# Altium footprint library Pcb库.PcbLib: 37 footprints (part 2 of 3)
Each footprint in its own frame and in the unit in brackets; x right, y up, seen from the top. Pads: shape width x height; smd on the part's side, far side on the other; paste and mask are expansions set on the pad; w line width, h text height; cw(c..) or ccw(c..) is an arc to the next point about the centre after c.
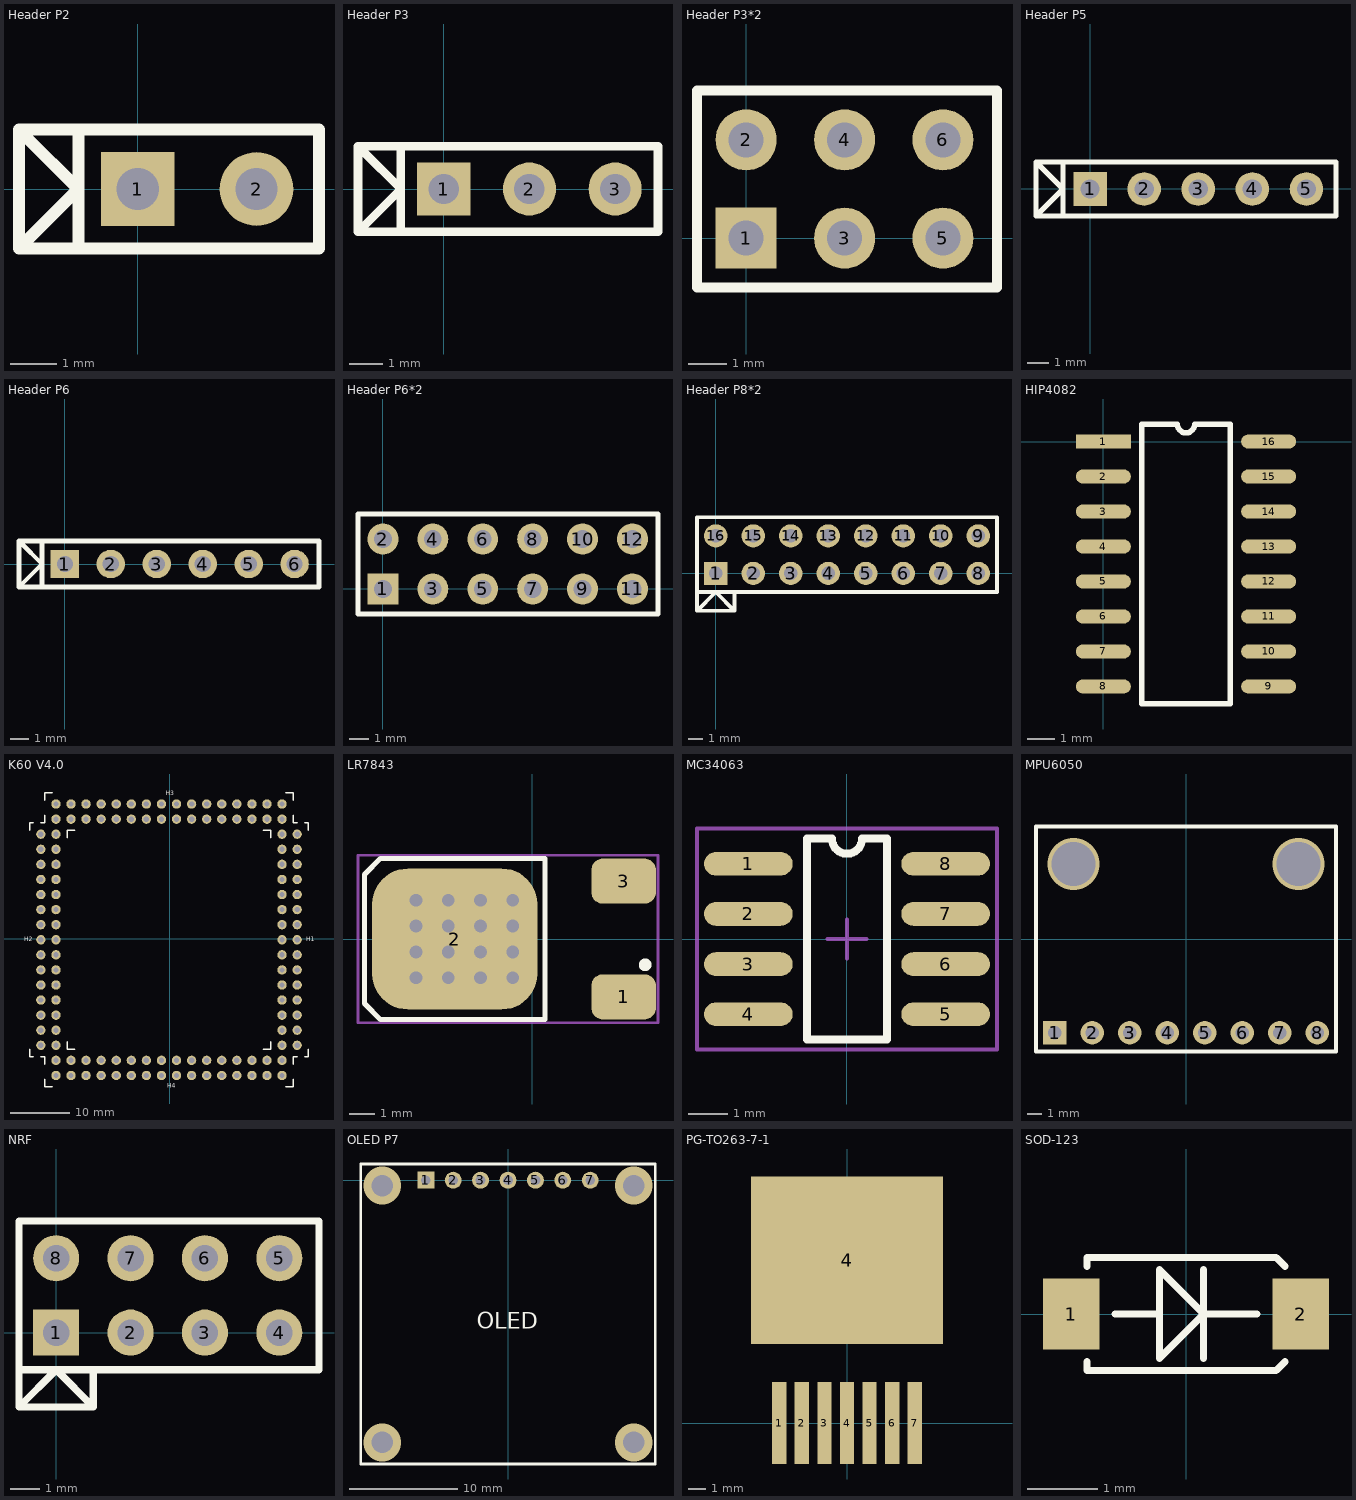
[diagram p1: the footprints below, top view; thin cyan lines are the x and y axes]

## Header P2 [mil]
pads (2):
  rect 62x62 hole 35.5: 1(0,0)
  round 62 hole 35.5: 2(100,0)
Top Overlay:
  lines w10: -95,45 -50,0 -100,-50 ; -100,-50 -100,50 -50,50 ; -100,-50 -50,-50 ; -50,-50 152.56,-50 152.56,50 -50,50 ; -50,-50 -50,50
3D body: height 100, standoff 0, extent 50,-50 150,50
3D body: height 100, standoff 0, extent -50,-50 50,50
3D body: height 350, standoff -100, extent 90,-10 110,10
3D body: height 350, standoff -100, extent -10,-10 10,10

## Header P3 [mil]
pads (3):
  rect 62x62 hole 35.5: 1(0,0)
  round 62 hole 35.5: 2(100,0) 3(200,0)
Top Overlay:
  lines w10: -95,45 -50,0 -100,-50 ; -100,-50 -50,-50 ; -100,-50 -100,50 -50,50 ; -50,-50 -50,50 ; -50,-50 250,-50 250,50 -50,50
3D body: height 350, standoff -100, extent -10,-10 10,10
3D body: height 350, standoff -100, extent 90,-10 110,10
3D body: height 350, standoff -100, extent 190,-10 210,10
3D body: height 100, standoff 0, extent 150,-50 250,50
3D body: height 100, standoff 0, extent -50,-50 50,50
3D body: height 100, standoff 0, extent 50,-50 150,50

## Header P3*2 [mil]
pads (6):
  rect 62x62 hole 35.5: 1(0,0)
  round 62 hole 35.5: 2(0,100) 3(100,0) 4(100,100) 5(200,0) 6(200,100)
Top Overlay:
  lines w10: -50,-50 254.92,-50 254.92,150 -50,150 -50,-50
3D body: height 350, standoff -100, extent -10,90 10,110
3D body: height 350, standoff -100, extent 90,90 110,110
3D body: height 350, standoff -100, extent 190,90 210,110
3D body: height 350, standoff -100, extent 190,-10 210,10
3D body: height 350, standoff -100, extent 90,-10 110,10
3D body: height 350, standoff -100, extent -10,-10 10,10
3D body: height 100, standoff 0, extent -50,50 50,150
3D body: height 100, standoff 0, extent 50,50 150,150
3D body: height 100, standoff 0, extent 150,50 250,150
3D body: height 100, standoff 0, extent 150,-50 250,50
3D body: height 100, standoff 0, extent 50,-50 150,50
3D body: height 100, standoff 0, extent -50,-50 50,50

## Header P5 [mil]
pads (5):
  rect 62x62 hole 35.5: 1(0,0)
  round 62 hole 35.5: 2(100,0) 3(200,0) 4(300,0) 5(400,0)
Top Overlay:
  lines w10: -95,45 -50,0 -100,-50 ; -100,-50 -50,-50 ; -100,-50 -100,50 -50,50 ; -50,-50 -50,50 ; -50,-50 454.72,-50 454.72,50 -50,50
3D body: height 350, standoff -100, extent -10,-10 10,10
3D body: height 350, standoff -100, extent 90,-10 110,10
3D body: height 350, standoff -100, extent 190,-10 210,10
3D body: height 100, standoff 0, extent 150,-50 250,50
3D body: height 100, standoff 0, extent -50,-50 50,50
3D body: height 100, standoff 0, extent 50,-50 150,50
3D body: height 100, standoff 0, extent 250,-50 350,50
3D body: height 100, standoff 0, extent 350,-50 450,50
3D body: height 350, standoff -100, extent 390,-10 410,10
3D body: height 350, standoff -100, extent 290,-10 310,10

## Header P6 [mil]
pads (6):
  rect 62x62 hole 35.5: 1(0,0)
  round 62 hole 35.5: 2(100,0) 3(200,0) 4(300,0) 5(400,0) 6(500,0)
Top Overlay:
  lines w10: -95,45 -50,0 -100,-50 ; -100,-50 -50,-50 ; -100,-50 -100,50 -50,50 ; -50,-50 -50,50 ; -50,-50 553.15,-50 553.15,50 -50,50
3D body: height 350, standoff -100, extent -10,-10 10,10
3D body: height 350, standoff -100, extent 90,-10 110,10
3D body: height 350, standoff -100, extent 190,-10 210,10
3D body: height 100, standoff 0, extent 150,-50 250,50
3D body: height 100, standoff 0, extent -50,-50 50,50
3D body: height 100, standoff 0, extent 50,-50 150,50
3D body: height 100, standoff 0, extent 250,-50 350,50
3D body: height 100, standoff 0, extent 350,-50 450,50
3D body: height 350, standoff -100, extent 390,-10 410,10
3D body: height 350, standoff -100, extent 290,-10 310,10
3D body: height 350, standoff -100, extent 490,-10 510,10
3D body: height 100, standoff 0, extent 450,-50 550,50

## Header P6*2 [mil]
pads (12):
  rect 62x62 hole 35.5: 1(0,0)
  round 62 hole 35.5: 2(0,100) 3(100,0) 4(100,100) 5(200,0) 6(200,100) 7(300,0) 8(300,100) 9(400,0) 10(400,100) 11(500,0) 12(500,100)
Top Overlay:
  lines w10: -50,-50 -50,150 551.18,150 551.18,-50 -50,-50
3D body: height 100, standoff 0, extent -50,-50 50,50
3D body: height 100, standoff 0, extent 50,-50 150,50
3D body: height 100, standoff 0, extent 150,-50 250,50
3D body: height 100, standoff 0, extent 250,-50 350,50
3D body: height 100, standoff 0, extent 350,-50 450,50
3D body: height 100, standoff 0, extent 450,-50 550,50
3D body: height 100, standoff 0, extent 450,50 550,150
3D body: height 100, standoff 0, extent 350,50 450,150
3D body: height 100, standoff 0, extent 250,50 350,150
3D body: height 100, standoff 0, extent 150,50 250,150
3D body: height 100, standoff 0, extent 50,50 150,150
3D body: height 100, standoff 0, extent -50,50 50,150
3D body: height 350, standoff -100, extent -10,-10 10,10
3D body: height 350, standoff -100, extent 90,-10 110,10
3D body: height 350, standoff -100, extent 190,-10 210,10
3D body: height 350, standoff -100, extent 290,-10 310,10
3D body: height 350, standoff -100, extent 390,-10 410,10
3D body: height 350, standoff -100, extent 490,-10 510,10
3D body: height 350, standoff -100, extent 490,90 510,110
3D body: height 350, standoff -100, extent 390,90 410,110
3D body: height 350, standoff -100, extent 290,90 310,110
3D body: height 350, standoff -100, extent 190,90 210,110
3D body: height 350, standoff -100, extent 90,90 110,110
3D body: height 350, standoff -100, extent -10,90 10,110

## Header P8*2 [mil]
pads (16):
  rect 62x62 hole 35.5: 1(0,0)
  round 62 hole 35.5: 2(100,0) 3(200,0) 4(300,0) 5(400,0) 6(500,0) 7(600,0) 8(700,0) 9(700,100) 10(600,100) 11(500,100) 12(400,100) 13(300,100) 14(200,100) 15(100,100) 16(0,100)
Top Overlay:
  lines w10: 50,-50 50,-100 ; -50,-100 -50,-50 ; -50,-100 0,-50 50,-100 ; -50,-100 50,-100 ; -50,-50 -50,150 750,150 750,-50 -50,-50
3D body: height 100, standoff 0, extent -50,-50 50,50
3D body: height 100, standoff 0, extent 50,-50 150,50
3D body: height 100, standoff 0, extent 150,-50 250,50
3D body: height 100, standoff 0, extent 250,-50 350,50
3D body: height 100, standoff 0, extent 350,-50 450,50
3D body: height 100, standoff 0, extent 450,-50 550,50
3D body: height 100, standoff 0, extent 550,-50 650,50
3D body: height 100, standoff 0, extent 650,-50 750,50
3D body: height 100, standoff 0, extent 650,50 750,150
3D body: height 100, standoff 0, extent 550,50 650,150
3D body: height 100, standoff 0, extent 450,50 550,150
3D body: height 100, standoff 0, extent 350,50 450,150
3D body: height 100, standoff 0, extent 250,50 350,150
3D body: height 100, standoff 0, extent 150,50 250,150
3D body: height 100, standoff 0, extent 50,50 150,150
3D body: height 100, standoff 0, extent -50,50 50,150
3D body: height 350, standoff -100, extent -10,-10 10,10
3D body: height 350, standoff -100, extent 90,-10 110,10
3D body: height 350, standoff -100, extent 190,-10 210,10
3D body: height 350, standoff -100, extent 290,-10 310,10
3D body: height 350, standoff -100, extent 390,-10 410,10
3D body: height 350, standoff -100, extent 490,-10 510,10
3D body: height 350, standoff -100, extent 590,-10 610,10
3D body: height 350, standoff -100, extent 690,-10 710,10
3D body: height 350, standoff -100, extent 690,90 710,110
3D body: height 350, standoff -100, extent 590,90 610,110
3D body: height 350, standoff -100, extent 490,90 510,110
3D body: height 350, standoff -100, extent 390,90 410,110
3D body: height 350, standoff -100, extent 290,90 310,110
3D body: height 350, standoff -100, extent 190,90 210,110
3D body: height 350, standoff -100, extent 90,90 110,110
3D body: height 350, standoff -100, extent -10,90 10,110

## HIP4082 [mm]
pads (16):
  rect 2x0.51 smd: 1(0,0)
  oval 2x0.51 smd: 2(0,-1.27) 3(0,-2.54) 4(0,-3.81) 5(0,-5.08) 6(0,-6.35) 7(0,-7.62) 8(0,-8.89) 9(6,-8.89) 10(6,-7.62) 11(6,-6.35) 12(6,-5.08) 13(6,-3.81) 14(6,-2.54) 15(6,-1.27) 16(6,0)
Top Overlay:
  lines w0.2: 1.4,-9.525 4.6,-9.525 4.6,0.635 3.317,0.635 cw(c3,0.635) 2.682,0.635 1.4,0.635 1.4,-9.525

## K60 V4.0 [mil]
pads (124):
  round 62 hole 35: 101(845,-705) 102(745,-705) 103(845,-605) 104(745,-605) 105(845,-505) 106(745,-505) 107(845,-405) 108(745,-405) 109(845,-305) 110(745,-305) 111(845,-205) 112(745,-205) 113(845,-105) 114(745,-105) 115(845,-5) 116(745,-5) 117(845,95) 118(745,95) 119(845,195) 120(745,195) 121(845,295) 122(745,295) 123(845,395) 124(745,395) 125(845,495) 126(745,495) 127(845,595) 128(745,595) 129(845,695) 130(745,695) 201(-755,-705) 202(-855,-705) 203(-755,-605) 204(-855,-605) 205(-755,-505) 206(-855,-505) 207(-755,-405) 208(-855,-405) 209(-755,-305) 210(-855,-305) 211(-755,-205) 212(-855,-205) 213(-755,-105) 214(-855,-105) 215(-755,-5) 216(-855,-5) 217(-755,95) 218(-855,95) 219(-755,195) 220(-855,195) 221(-755,295) 222(-855,295) 223(-755,395) 224(-855,395) 225(-755,495) 226(-855,495) 227(-755,595) 228(-855,595) 229(-755,695) 230(-855,695) 301(745,895) 302(745,795) 303(645,895) 304(645,795) 305(545,895) 306(545,795) 307(445,895) 308(445,795) 309(345,895) 310(345,795) 311(245,895) 312(245,795) 313(145,895) 314(145,795) 315(45,895) 316(45,795) 317(-55,895) 318(-55,795) 319(-155,895) 320(-155,795) 321(-255,895) 322(-255,795) 323(-355,895) 324(-355,795) 325(-455,895) 326(-455,795) 327(-555,895) 328(-555,795) 329(-655,895) 330(-655,795) 331(-755,895) 332(-755,795) 401(745,-805) 402(745,-905) 403(645,-805) 404(645,-905) 405(545,-805) 406(545,-905) 407(445,-805) 408(445,-905) 409(345,-805) 410(345,-905) 411(245,-805) 412(245,-905) 413(145,-805) 414(145,-905) 415(45,-805) 416(45,-905) 417(-55,-805) 418(-55,-905) 419(-155,-805) 420(-155,-905) 421(-255,-805) 422(-255,-905) 423(-355,-805) 424(-355,-905) 425(-455,-805) 426(-455,-905) 427(-555,-805) 428(-555,-905) 429(-655,-805) 430(-655,-905) 431(-755,-805) 432(-755,-905)
Top Overlay:
  lines w10: -930,-730 -930,-780 -905,-780 ; -930,720 -930,770 -905,770 ; -855,-780 -830,-780 -830,-830 ; -855,770 -830,770 -830,820 ; -830,-930 -830,-980 -780,-980 ; -830,920 -830,970 -780,970 ; -680,-680 -680,-730 -630,-730 ; -680,670 -680,720 -630,720 ; 620,-730 670,-730 670,-680 ; 620,720 670,720 670,670 ; 770,-980 820,-980 820,-930 ; 770,970 820,970 820,920 ; 820,-830 820,-780 845,-780 ; 820,820 820,770 845,770 ; 895,-780 920,-780 920,-730 ; 895,770 920,770 920,720
  text "H3" at -25,945 h50
  text "H2" at -965,-25 h50
  text "H4" at -15,-995 h50
  text "H1" at 905,-25 h50
3D body: height 200, standoff -100, extent -865,685 -845,705
3D body: height 300, standoff 0, extent -890,660 -820,730
3D body: height 350, standoff 0, extent -905,645 -805,745
3D body: height 200, standoff -100, extent -865,585 -845,605
3D body: height 300, standoff 0, extent -890,560 -820,630
3D body: height 350, standoff 0, extent -905,545 -805,645
3D body: height 200, standoff -100, extent -865,485 -845,505
3D body: height 300, standoff 0, extent -890,460 -820,530
3D body: height 350, standoff 0, extent -905,445 -805,545
3D body: height 200, standoff -100, extent -865,385 -845,405
3D body: height 300, standoff 0, extent -890,360 -820,430
3D body: height 350, standoff 0, extent -905,345 -805,445
3D body: height 200, standoff -100, extent -865,285 -845,305
3D body: height 300, standoff 0, extent -890,260 -820,330
3D body: height 350, standoff 0, extent -905,245 -805,345
3D body: height 200, standoff -100, extent -865,185 -845,205
3D body: height 300, standoff 0, extent -890,160 -820,230
3D body: height 350, standoff 0, extent -905,145 -805,245
3D body: height 200, standoff -100, extent -865,85 -845,105
3D body: height 300, standoff 0, extent -890,60 -820,130
3D body: height 350, standoff 0, extent -905,45 -805,145
3D body: height 200, standoff -100, extent -865,-15 -844.99,5
3D body: height 300, standoff 0, extent -889.99,-40 -820,30
3D body: height 350, standoff 0, extent -905,-55 -805,45
3D body: height 200, standoff -100, extent -865,-115 -845,-95
3D body: height 300, standoff 0, extent -890,-140 -820,-70
3D body: height 350, standoff 0, extent -905,-155 -805,-55
3D body: height 200, standoff -100, extent -865,-215 -845,-195
3D body: height 300, standoff 0, extent -890,-240 -820,-170
3D body: height 350, standoff 0, extent -905,-255 -805,-155
3D body: height 200, standoff -100, extent -865,-315 -845,-295
3D body: height 300, standoff 0, extent -890,-340 -820,-270
3D body: height 350, standoff 0, extent -905,-355 -805,-255
3D body: height 200, standoff -100, extent -865,-415 -845,-395
3D body: height 300, standoff 0, extent -890,-440 -820,-370
3D body: height 350, standoff 0, extent -905,-455 -805,-355
3D body: height 200, standoff -100, extent -865,-515 -845,-495
3D body: height 300, standoff 0, extent -890,-540 -820,-470
3D body: height 350, standoff 0, extent -905,-555 -805,-455
3D body: height 200, standoff -100, extent -865,-615 -844.99,-595
3D body: height 300, standoff 0, extent -889.99,-640 -820,-570
3D body: height 350, standoff 0, extent -905,-655 -805,-555
3D body: height 200, standoff -100, extent -865,-715 -845,-695
3D body: height 300, standoff 0, extent -890,-740 -820,-670
3D body: height 350, standoff 0, extent -905,-755 -805,-655
3D body: height 350, standoff 0, extent -805,-755 -705,-655
3D body: height 300, standoff 0, extent -790,-740 -720,-670
3D body: height 200, standoff -100, extent -765,-715 -745,-695
3D body: height 350, standoff 0, extent -805,-655 -705,-555
3D body: height 300, standoff 0, extent -789.99,-640 -720,-570
3D body: height 200, standoff -100, extent -765,-615 -744.99,-595
3D body: height 350, standoff 0, extent -805,-555 -705,-455
3D body: height 300, standoff 0, extent -790,-540 -720,-470
3D body: height 200, standoff -100, extent -765,-515 -745,-495
3D body: height 350, standoff 0, extent -805,-455 -705,-355
3D body: height 300, standoff 0, extent -790,-440 -720,-370
3D body: height 200, standoff -100, extent -765,-415 -745,-395
3D body: height 350, standoff 0, extent -805,-355 -705,-255
3D body: height 300, standoff 0, extent -790,-340 -720,-270
3D body: height 200, standoff -100, extent -765,-315 -745,-295
3D body: height 350, standoff 0, extent -805,-255 -705,-155
3D body: height 300, standoff 0, extent -790,-240 -720,-170
3D body: height 200, standoff -100, extent -765,-215 -745,-195
3D body: height 350, standoff 0, extent -805,-155 -705,-55
3D body: height 300, standoff 0, extent -790,-140 -720,-70
3D body: height 200, standoff -100, extent -765,-115 -745,-95
3D body: height 350, standoff 0, extent -805,-55 -705,45
3D body: height 300, standoff 0, extent -789.99,-40 -720,30
3D body: height 200, standoff -100, extent -765,-15 -744.99,5
3D body: height 350, standoff 0, extent -805,45 -705,145
3D body: height 300, standoff 0, extent -790,60 -720,130
3D body: height 200, standoff -100, extent -765,85 -745,105
3D body: height 350, standoff 0, extent -805,145 -705,245
3D body: height 300, standoff 0, extent -790,160 -720,230
3D body: height 200, standoff -100, extent -765,185 -745,205
3D body: height 350, standoff 0, extent -805,245 -705,345
3D body: height 300, standoff 0, extent -790,260 -720,330
3D body: height 200, standoff -100, extent -765,285 -745,305
3D body: height 350, standoff 0, extent -805,345 -705,445
3D body: height 300, standoff 0, extent -790,360 -720,430
3D body: height 200, standoff -100, extent -765,385 -745,405
3D body: height 350, standoff 0, extent -805,445 -705,545
3D body: height 300, standoff 0, extent -790,460 -720,530
3D body: height 200, standoff -100, extent -765,485 -745,505
3D body: height 350, standoff 0, extent -805,545 -705,645
3D body: height 300, standoff 0, extent -790,560 -720,630
3D body: height 200, standoff -100, extent -765,585 -745,605
3D body: height 350, standoff 0, extent -805,645 -705,745
3D body: height 300, standoff 0, extent -790,660 -720,730
3D body: height 200, standoff -100, extent -765,685 -745,705
3D body: height 350, standoff 0, extent 695,-755 795,-655
3D body: height 300, standoff 0, extent 710,-740 780,-670
3D body: height 200, standoff -100, extent 735,-715 755,-695
3D body: height 350, standoff 0, extent 695,-655 795,-555
3D body: height 300, standoff 0, extent 710.01,-640 780,-570
3D body: height 200, standoff -100, extent 735,-615 755.01,-595
3D body: height 350, standoff 0, extent 695,-555 795,-455
3D body: height 300, standoff 0, extent 710,-540 780,-470
3D body: height 200, standoff -100, extent 735,-515 755,-495
3D body: height 350, standoff 0, extent 695,-455 795,-355
3D body: height 300, standoff 0, extent 710,-440 780,-370
3D body: height 200, standoff -100, extent 735,-415 755,-395
3D body: height 350, standoff 0, extent 695,-355 795,-255
3D body: height 300, standoff 0, extent 710,-340 780,-270
3D body: height 200, standoff -100, extent 735,-315 755,-295
3D body: height 350, standoff 0, extent 695,-255 795,-155
3D body: height 300, standoff 0, extent 710,-240 780,-170
3D body: height 200, standoff -100, extent 735,-215 755,-195
3D body: height 350, standoff 0, extent 695,-155 795,-55
3D body: height 300, standoff 0, extent 710,-140 780,-70
3D body: height 200, standoff -100, extent 735,-115 755,-95
3D body: height 350, standoff 0, extent 695,-55 795,45
3D body: height 300, standoff 0, extent 710.01,-40 780,30
3D body: height 200, standoff -100, extent 735,-15 755.01,5
3D body: height 350, standoff 0, extent 695,45 795,145
3D body: height 300, standoff 0, extent 710,60 780,130
3D body: height 200, standoff -100, extent 735,85 755,105
3D body: height 350, standoff 0, extent 695,145 795,245
3D body: height 300, standoff 0, extent 710,160 780,230
3D body: height 200, standoff -100, extent 735,185 755,205
3D body: height 350, standoff 0, extent 695,245 795,345
3D body: height 300, standoff 0, extent 710,260 780,330
3D body: height 200, standoff -100, extent 735,285 755,305
3D body: height 350, standoff 0, extent 695,345 795,445
3D body: height 300, standoff 0, extent 710,360 780,430
3D body: height 200, standoff -100, extent 735,385 755,405
3D body: height 350, standoff 0, extent 695,445 795,545
3D body: height 300, standoff 0, extent 710,460 780,530
3D body: height 200, standoff -100, extent 735,485 755,505
3D body: height 350, standoff 0, extent 695,545 795,645
3D body: height 300, standoff 0, extent 710,560 780,630
3D body: height 200, standoff -100, extent 735,585 755,605
3D body: height 350, standoff 0, extent 695,645 795,745
3D body: height 300, standoff 0, extent 710,660 780,730
3D body: height 200, standoff -100, extent 735,685 755,705
3D body: height 350, standoff 0, extent 795,-755 895,-655
3D body: height 300, standoff 0, extent 810,-740 880,-670
3D body: height 200, standoff -100, extent 835,-715 855,-695
3D body: height 350, standoff 0, extent 795,-655 895,-555
3D body: height 300, standoff 0, extent 810.01,-640 880,-570
3D body: height 200, standoff -100, extent 835,-615 855.01,-595
3D body: height 350, standoff 0, extent 795,-555 895,-455
3D body: height 300, standoff 0, extent 810,-540 880,-470
3D body: height 200, standoff -100, extent 835,-515 855,-495
3D body: height 350, standoff 0, extent 795,-455 895,-355
3D body: height 300, standoff 0, extent 810,-440 880,-370
3D body: height 200, standoff -100, extent 835,-415 855,-395
3D body: height 350, standoff 0, extent 795,-355 895,-255
3D body: height 300, standoff 0, extent 810,-340 880,-270
3D body: height 200, standoff -100, extent 835,-315 855,-295
3D body: height 350, standoff 0, extent 795,-255 895,-155
3D body: height 300, standoff 0, extent 810,-240 880,-170
3D body: height 200, standoff -100, extent 835,-215 855,-195
3D body: height 350, standoff 0, extent 795,-155 895,-55
3D body: height 300, standoff 0, extent 810,-140 880,-70
3D body: height 200, standoff -100, extent 835,-115 855,-95
3D body: height 350, standoff 0, extent 795,-55 895,45
3D body: height 300, standoff 0, extent 810.01,-40 880,30
3D body: height 200, standoff -100, extent 835,-15 855.01,5
3D body: height 350, standoff 0, extent 795,45 895,145
3D body: height 300, standoff 0, extent 810,60 880,130
3D body: height 200, standoff -100, extent 835,85 855,105
3D body: height 350, standoff 0, extent 795,145 895,245
3D body: height 300, standoff 0, extent 810,160 880,230
3D body: height 200, standoff -100, extent 835,185 855,205
3D body: height 350, standoff 0, extent 795,245 895,345
3D body: height 300, standoff 0, extent 810,260 880,330
3D body: height 200, standoff -100, extent 835,285 855,305
3D body: height 350, standoff 0, extent 795,345 895,445
3D body: height 300, standoff 0, extent 810,360 880,430
3D body: height 200, standoff -100, extent 835,385 855,405
3D body: height 350, standoff 0, extent 795,445 895,545
3D body: height 300, standoff 0, extent 810,460 880,530
3D body: height 200, standoff -100, extent 835,485 855,505
3D body: height 350, standoff 0, extent 795,545 895,645
3D body: height 300, standoff 0, extent 810,560 880,630
3D body: height 200, standoff -100, extent 835,585 855,605
3D body: height 350, standoff 0, extent 795,645 895,745
3D body: height 300, standoff 0, extent 810,660 880,730
3D body: height 200, standoff -100, extent 835,685 855,705
3D body: height 350, standoff 0, extent 595,845 695,945
3D body: height 300, standoff 0, extent 610,860 680,930
3D body: height 200, standoff -100, extent 635,885 655,905
3D body: height 350, standoff 0, extent 495,845 595,945
3D body: height 300, standoff 0, extent 510,860.01 580,930
3D body: height 200, standoff -100, extent 535,885 555,905.01
3D body: height 350, standoff 0, extent 395,845 495,945
3D body: height 300, standoff 0, extent 410,860 480,930
3D body: height 200, standoff -100, extent 435,885 455,905
3D body: height 350, standoff 0, extent 295,845 395,945
3D body: height 300, standoff 0, extent 310,860 380,930
3D body: height 200, standoff -100, extent 335,885 355,905
3D body: height 350, standoff 0, extent 195,845 295,945
3D body: height 300, standoff 0, extent 210,860 280,930
3D body: height 200, standoff -100, extent 235,885 255,905
3D body: height 350, standoff 0, extent 95,845 195,945
3D body: height 300, standoff 0, extent 110,860 180,930
3D body: height 200, standoff -100, extent 135,885 155,905
3D body: height 350, standoff 0, extent -5,845 95,945
3D body: height 300, standoff 0, extent 10,860 80,930
3D body: height 200, standoff -100, extent 35,885 55,905
3D body: height 350, standoff 0, extent -105,845 -5,945
3D body: height 300, standoff 0, extent -90,860.01 -20,930
3D body: height 200, standoff -100, extent -65,885 -45,905.01
3D body: height 350, standoff 0, extent -205,845 -105,945
3D body: height 300, standoff 0, extent -190,860 -120,930
3D body: height 200, standoff -100, extent -165,885 -145,905
3D body: height 350, standoff 0, extent -305,845 -205,945
3D body: height 300, standoff 0, extent -290,860 -220,930
3D body: height 200, standoff -100, extent -265,885 -245,905
3D body: height 350, standoff 0, extent -405,845 -305,945
3D body: height 300, standoff 0, extent -390,860 -320,930
3D body: height 200, standoff -100, extent -365,885 -345,905
3D body: height 350, standoff 0, extent -505,845 -405,945
3D body: height 300, standoff 0, extent -490,860 -420,930
3D body: height 200, standoff -100, extent -465,885 -445,905
3D body: height 350, standoff 0, extent -605,845 -505,945
3D body: height 300, standoff 0, extent -590,860 -520,930
3D body: height 200, standoff -100, extent -565,885 -545,905
3D body: height 350, standoff 0, extent -705,845 -605,945
3D body: height 300, standoff 0, extent -690,860 -620,930
3D body: height 200, standoff -100, extent -665,885 -645,905
3D body: height 350, standoff 0, extent -805,845 -705,945
3D body: height 300, standoff 0, extent -790,860 -720,930
3D body: height 200, standoff -100, extent -765,885 -745,905
3D body: height 350, standoff 0, extent 595,745 695,845
3D body: height 300, standoff 0, extent 610,760 680,830
3D body: height 200, standoff -100, extent 635,785 655,805
3D body: height 350, standoff 0, extent 495,745 595,845
3D body: height 300, standoff 0, extent 510,760.01 580,830
3D body: height 200, standoff -100, extent 535,785 555,805.01
3D body: height 350, standoff 0, extent 395,745 495,845
3D body: height 300, standoff 0, extent 410,760 480,830
3D body: height 200, standoff -100, extent 435,785 455,805
3D body: height 350, standoff 0, extent 295,745 395,845
3D body: height 300, standoff 0, extent 310,760 380,830
3D body: height 200, standoff -100, extent 335,785 355,805
3D body: height 350, standoff 0, extent 195,745 295,845
3D body: height 300, standoff 0, extent 210,760 280,830
3D body: height 200, standoff -100, extent 235,785 255,805
3D body: height 350, standoff 0, extent 95,745 195,845
3D body: height 300, standoff 0, extent 110,760 180,830
3D body: height 200, standoff -100, extent 135,785 155,805
3D body: height 350, standoff 0, extent -5,745 95,845
3D body: height 300, standoff 0, extent 10,760 80,830
3D body: height 200, standoff -100, extent 35,785 55,805
3D body: height 350, standoff 0, extent -105,745 -5,845
3D body: height 300, standoff 0, extent -90,760.01 -20,830
3D body: height 200, standoff -100, extent -65,785 -45,805.01
3D body: height 350, standoff 0, extent -205,745 -105,845
3D body: height 300, standoff 0, extent -190,760 -120,830
3D body: height 200, standoff -100, extent -165,785 -145,805
3D body: height 350, standoff 0, extent -305,745 -205,845
3D body: height 300, standoff 0, extent -290,760 -220,830
3D body: height 200, standoff -100, extent -265,785 -245,805
3D body: height 350, standoff 0, extent -405,745 -305,845
3D body: height 300, standoff 0, extent -390,760 -320,830
3D body: height 200, standoff -100, extent -365,785 -345,805
3D body: height 350, standoff 0, extent -505,745 -405,845
3D body: height 300, standoff 0, extent -490,760 -420,830
3D body: height 200, standoff -100, extent -465,785 -445,805
3D body: height 350, standoff 0, extent -605,745 -505,845
3D body: height 300, standoff 0, extent -590,760 -520,830
3D body: height 200, standoff -100, extent -565,785 -545,805
3D body: height 350, standoff 0, extent -705,745 -605,845
3D body: height 300, standoff 0, extent -690,760 -620,830
3D body: height 200, standoff -100, extent -665,785 -645,805
3D body: height 350, standoff 0, extent -805,745 -705,845
3D body: height 300, standoff 0, extent -790,760 -720,830
3D body: height 200, standoff -100, extent -765,785 -745,805
3D body: height 350, standoff 0, extent 595,-855 695,-755
3D body: height 300, standoff 0, extent 610,-840 680,-770
3D body: height 200, standoff -100, extent 635,-815 655,-795
3D body: height 350, standoff 0, extent 495,-855 595,-755
3D body: height 300, standoff 0, extent 510,-839.99 580,-770
3D body: height 200, standoff -100, extent 535,-815 555,-794.99
3D body: height 350, standoff 0, extent 395,-855 495,-755
3D body: height 300, standoff 0, extent 410,-840 480,-770
3D body: height 200, standoff -100, extent 435,-815 455,-795
3D body: height 350, standoff 0, extent 295,-855 395,-755
3D body: height 300, standoff 0, extent 310,-840 380,-770
3D body: height 200, standoff -100, extent 335,-815 355,-795
3D body: height 350, standoff 0, extent 195,-855 295,-755
3D body: height 300, standoff 0, extent 210,-840 280,-770
3D body: height 200, standoff -100, extent 235,-815 255,-795
3D body: height 350, standoff 0, extent 95,-855 195,-755
3D body: height 300, standoff 0, extent 110,-840 180,-770
3D body: height 200, standoff -100, extent 135,-815 155,-795
3D body: height 350, standoff 0, extent -5,-855 95,-755
3D body: height 300, standoff 0, extent 10,-840 80,-770
3D body: height 200, standoff -100, extent 35,-815 55,-795
3D body: height 350, standoff 0, extent -105,-855 -5,-755
3D body: height 300, standoff 0, extent -90,-839.99 -20,-770
3D body: height 200, standoff -100, extent -65,-815 -45,-794.99
3D body: height 350, standoff 0, extent -205,-855 -105,-755
3D body: height 300, standoff 0, extent -190,-840 -120,-770
3D body: height 200, standoff -100, extent -165,-815 -145,-795
3D body: height 350, standoff 0, extent -305,-855 -205,-755
3D body: height 300, standoff 0, extent -290,-840 -220,-770
3D body: height 200, standoff -100, extent -265,-815 -245,-795
3D body: height 350, standoff 0, extent -405,-855 -305,-755
3D body: height 300, standoff 0, extent -390,-840 -320,-770
3D body: height 200, standoff -100, extent -365,-815 -345,-795
3D body: height 350, standoff 0, extent -505,-855 -405,-755
3D body: height 300, standoff 0, extent -490,-840 -420,-770
3D body: height 200, standoff -100, extent -465,-815 -445,-795
3D body: height 350, standoff 0, extent -605,-855 -505,-755
3D body: height 300, standoff 0, extent -590,-840 -520,-770
3D body: height 200, standoff -100, extent -565,-815 -545,-795
3D body: height 350, standoff 0, extent -705,-855 -605,-755
3D body: height 300, standoff 0, extent -690,-840 -620,-770
3D body: height 200, standoff -100, extent -665,-815 -645,-795
3D body: height 350, standoff 0, extent -805,-855 -705,-755
3D body: height 300, standoff 0, extent -790,-840 -720,-770
3D body: height 200, standoff -100, extent -765,-815 -745,-795
3D body: height 350, standoff 0, extent 595,-955 695,-855
3D body: height 300, standoff 0, extent 610,-940 680,-870
3D body: height 200, standoff -100, extent 635,-915 655,-895
3D body: height 350, standoff 0, extent 495,-955 595,-855
3D body: height 300, standoff 0, extent 510,-939.99 580,-870
3D body: height 200, standoff -100, extent 535,-915 555,-894.99
3D body: height 350, standoff 0, extent 395,-955 495,-855
3D body: height 300, standoff 0, extent 410,-940 480,-870
3D body: height 200, standoff -100, extent 435,-915 455,-895
3D body: height 350, standoff 0, extent 295,-955 395,-855
3D body: height 300, standoff 0, extent 310,-940 380,-870
3D body: height 200, standoff -100, extent 335,-915 355,-895
3D body: height 350, standoff 0, extent 195,-955 295,-855
3D body: height 300, standoff 0, extent 210,-940 280,-870
3D body: height 200, standoff -100, extent 235,-915 255,-895
3D body: height 350, standoff 0, extent 95,-955 195,-855
3D body: height 300, standoff 0, extent 110,-940 180,-870
3D body: height 200, standoff -100, extent 135,-915 155,-895
3D body: height 350, standoff 0, extent -5,-955 95,-855
3D body: height 300, standoff 0, extent 10,-940 80,-870
3D body: height 200, standoff -100, extent 35,-915 55,-895
3D body: height 350, standoff 0, extent -105,-955 -5,-855
3D body: height 300, standoff 0, extent -90,-939.99 -20,-870
3D body: height 200, standoff -100, extent -65,-915 -45,-894.99
3D body: height 350, standoff 0, extent -205,-955 -105,-855
3D body: height 300, standoff 0, extent -190,-940 -120,-870
3D body: height 200, standoff -100, extent -165,-915 -145,-895
3D body: height 350, standoff 0, extent -305,-955 -205,-855
3D body: height 300, standoff 0, extent -290,-940 -220,-870
3D body: height 200, standoff -100, extent -265,-915 -245,-895
3D body: height 350, standoff 0, extent -405,-955 -305,-855
3D body: height 300, standoff 0, extent -390,-940 -320,-870
3D body: height 200, standoff -100, extent -365,-915 -345,-895
3D body: height 350, standoff 0, extent -505,-955 -405,-855
3D body: height 300, standoff 0, extent -490,-940 -420,-870
3D body: height 200, standoff -100, extent -465,-915 -445,-895
3D body: height 350, standoff 0, extent -605,-955 -505,-855
3D body: height 300, standoff 0, extent -590,-940 -520,-870
3D body: height 200, standoff -100, extent -565,-915 -545,-895
3D body: height 350, standoff 0, extent -705,-955 -605,-855
3D body: height 300, standoff 0, extent -690,-940 -620,-870
3D body: height 200, standoff -100, extent -665,-915 -645,-895
3D body: height 350, standoff 0, extent -805,-955 -705,-855
3D body: height 300, standoff 0, extent -790,-940 -720,-870
3D body: height 200, standoff -100, extent -765,-915 -745,-895
3D body: height 200, standoff -100, extent 735,885 755,905
3D body: height 300, standoff 0, extent 710,860 780,930
3D body: height 350, standoff 0, extent 695,845 795,945
3D body: height 200, standoff -100, extent 735,785 755,805
3D body: height 300, standoff 0, extent 710,760 780,830
3D body: height 350, standoff 0, extent 695,745 795,845
3D body: height 200, standoff -100, extent 735,-815 755,-795
3D body: height 300, standoff 0, extent 710,-840 780,-770
3D body: height 350, standoff 0, extent 695,-855 795,-755
3D body: height 200, standoff -100, extent 735,-915 755,-895
3D body: height 300, standoff 0, extent 710,-940 780,-870
3D body: height 350, standoff 0, extent 695,-955 795,-855

## LR7843 [mm]
pads (3):
  rrect50% 2.54x1.778 smd: 1(3.6,-2.28) 3(3.6,2.28)
  rrect50% 6.5x5.55 smd: 2(-3.048,0)
via -4.572,1.524 diameter 0.8 hole 0.5
via -4.572,0.508 diameter 0.8 hole 0.5
via -4.572,-0.508 diameter 0.8 hole 0.5
via -4.572,-1.524 diameter 0.8 hole 0.5
via -3.302,1.524 diameter 0.8 hole 0.5
via -3.302,0.508 diameter 0.8 hole 0.5
via -3.302,-0.508 diameter 0.8 hole 0.5
via -2.032,1.524 diameter 0.8 hole 0.5
via -2.032,0.508 diameter 0.8 hole 0.5
via -2.032,-1.524 diameter 0.8 hole 0.5
via -2.032,-0.508 diameter 0.8 hole 0.5
via -3.302,-1.524 diameter 0.8 hole 0.5
via -0.762,0.508 diameter 0.8 hole 0.5
via -0.762,1.524 diameter 0.8 hole 0.5
via -0.762,-0.508 diameter 0.8 hole 0.5
via -0.762,-1.524 diameter 0.8 hole 0.5
Top Overlay:
  circle w0.25: c4.447,-1.016 r0.125
  lines w0.2: -6.604,-2.54 -5.969,-3.175 0.508,-3.175 0.508,3.175 -5.969,3.175 -6.604,2.54 -6.604,-2.54
Mechanical 15:
  lines w0.1: -1.85,0 -0.85,0 ; -1.35,-0.5 -1.35,0.5 ; -6.858,-3.302 4.953,-3.302 4.953,3.302 -6.858,3.302 -6.858,-3.302

## MC34063 [mm]
pads (8):
  oval 2.25x0.6 smd: 1(-2.5,1.905) 2(-2.5,0.635) 3(-2.5,-0.635) 4(-2.5,-1.905) 5(2.5,-1.905) 6(2.5,-0.635) 7(2.5,0.635) 8(2.5,1.905)
Top Overlay:
  lines w0.203: -0.395,2.55 -1.016,2.55 -1.016,-2.55 1.016,-2.55 1.016,2.55 0.381,2.55 ; -0.381,2.54 ccw(c0,2.54) 0.381,2.54
Mechanical 15:
  lines w0.1: -0.5,0 0.5,0 ; 0,-0.5 0,0.5 ; -3.8,-2.8 3.8,-2.8 3.8,2.8 -3.8,2.8 -3.8,-2.8

## MPU6050 [mil]
pads (8):
  rect 62x62 hole 35.5: 1(-350,-250)
  round 62 hole 35.5: 2(-250,-250) 3(-150,-250) 4(-50,-250) 5(50,-250) 6(150,-250) 7(250,-250) 8(350,-250)
via -300,200 diameter 137.8 hole 118.1
via 300,200 diameter 137.8 hole 118.1
Top Overlay:
  lines w10: -400,-300 400,-300 400,300 -400,300 -400,-300
3D body: height 350, standoff 0, extent 300,-300 400,-200
3D body: height 300, standoff 0, extent 315,-285 385,-215
3D body: height 200, standoff -100, extent 340,-260 360,-240
3D body: height 350, standoff 0, extent 200,-300 300,-200
3D body: height 300, standoff 0, extent 215,-285 285,-215
3D body: height 200, standoff -100, extent 240,-260 260,-240
3D body: height 350, standoff 0, extent 100,-300 200,-200
3D body: height 300, standoff 0, extent 115,-285 185,-215
3D body: height 200, standoff -100, extent 140,-260 160,-240
3D body: height 350, standoff 0, extent 0,-300 100,-200
3D body: height 300, standoff 0, extent 15,-285 85,-215
3D body: height 200, standoff -100, extent 40,-260 60,-240
3D body: height 350, standoff 0, extent -100,-300 0,-200
3D body: height 300, standoff 0, extent -85,-285 -15,-215
3D body: height 200, standoff -100, extent -60,-260 -40,-240
3D body: height 350, standoff 0, extent -200,-300 -100,-200
3D body: height 300, standoff 0, extent -185,-285 -115,-215
3D body: height 200, standoff -100, extent -160,-260 -140,-240
3D body: height 350, standoff 0, extent -300,-300 -200,-200
3D body: height 300, standoff 0, extent -285,-285 -215,-215
3D body: height 200, standoff -100, extent -260,-260 -240,-240
3D body: height 350, standoff 0, extent -400,-300 -300,-200
3D body: height 300, standoff 0, extent -385,-285 -315,-215
3D body: height 200, standoff -100, extent -360,-260 -340,-240

## NRF [mil]
pads (8):
  rect 62x62 hole 35.5: 1(0,0)
  round 62 hole 35.5: 2(100,0) 3(200,0) 4(300,0) 5(300,100) 6(200,100) 7(100,100) 8(0,100)
Top Overlay:
  lines w10: 50,-50 50,-100 ; -50,-100 50,-100 ; -50,-100 0,-50 50,-100 ; -50,-100 -50,-50 ; -50,-50 353.35,-50 353.35,150 -50,150 -50,-50
3D body: height 200, standoff -100, extent 290,-10 310,10
3D body: height 200, standoff -100, extent 290,90 310,110
3D body: height 200, standoff -100, extent 190,-10 210,10
3D body: height 200, standoff -100, extent 190,90 210,110
3D body: height 200, standoff -100, extent 90,-10 110,10
3D body: height 200, standoff -100, extent 90,90 110,110
3D body: height 200, standoff -100, extent -10,-10 10,10
3D body: height 200, standoff -100, extent -10,90 10,110
3D body: height 350, standoff 0, extent 250,-50 350,50
3D body: height 350, standoff 0, extent 250,50 350,150
3D body: height 350, standoff 0, extent 150,-50 250,50
3D body: height 350, standoff 0, extent 150,50 250,150
3D body: height 350, standoff 0, extent 50,-50 150,50
3D body: height 350, standoff 0, extent 50,50 150,150
3D body: height 350, standoff 0, extent -50,-50 50,50
3D body: height 350, standoff 0, extent -50,50 50,150
3D body: height 300, standoff 0, extent -35,65 35,135
3D body: height 300, standoff 0, extent 65,65 135,135
3D body: height 300, standoff 0, extent 65,-35 135,35
3D body: height 300, standoff 0, extent -35,-35 35,35
3D body: height 300, standoff 0, extent 165,65 235,135
3D body: height 300, standoff 0, extent 165,-35 235,35
3D body: height 300, standoff 0, extent 265,65 335,135
3D body: height 300, standoff 0, extent 265,-35 335,35

## OLED P7 [mil]
pads (7):
  rect 62x62 hole 35.5: 1(-300,0)
  round 62 hole 35.5: 2(-200,0) 3(-100,0) 4(0,0) 5(100,0) 6(200,0) 7(300,0)
via -458.66,-19.68 diameter 137.8 hole 78.74
via 458.66,-19.68 diameter 137.8 hole 78.74
via -458.66,-956.69 diameter 137.8 hole 78.74
via 458.66,-956.69 diameter 137.8 hole 78.74
Top Overlay:
  lines w10: -537.4,-1035.43 -537.4,59.06 537.4,59.06 537.4,-1035.43 -537.4,-1035.43
  text "OLED" at -113.19,-542.32 h60
3D body: height 200, standoff -100, extent -310,-10 -290,10
3D body: height 300, standoff 0, extent -335,-35 -265,35
3D body: height 350, standoff 0, extent -350,-50 -250,50
3D body: height 200, standoff -100, extent -210,-10 -190,10
3D body: height 300, standoff 0, extent -235,-35 -165,35
3D body: height 350, standoff 0, extent -250,-50 -150,50
3D body: height 200, standoff -100, extent -110,-10 -90,10
3D body: height 300, standoff 0, extent -135,-35 -65,35
3D body: height 350, standoff 0, extent -150,-50 -50,50
3D body: height 200, standoff -100, extent -10,-10 10,10
3D body: height 300, standoff 0, extent -35,-35 35,35
3D body: height 350, standoff 0, extent -50,-50 50,50
3D body: height 200, standoff -100, extent 90,-10 110,10
3D body: height 300, standoff 0, extent 65,-35 135,35
3D body: height 350, standoff 0, extent 50,-50 150,50
3D body: height 200, standoff -100, extent 190,-10 210,10
3D body: height 300, standoff 0, extent 165,-35 235,35
3D body: height 350, standoff 0, extent 150,-50 250,50
3D body: height 200, standoff -100, extent 290,-10 310,10
3D body: height 300, standoff 0, extent 265,-35 335,35
3D body: height 350, standoff 0, extent 250,-50 350,50

## PG-TO263-7-1 [mm]
pads (8):
  rect 0.8x4.6 smd: 1(-3.81,0) 2(-2.54,0) 3(-1.27,0) 4(0,0) 5(1.27,0) 6(2.54,0) 7(3.81,0)
  rect 10.8x9.4 smd: 4(0,9.15)

## SOD-123 [mm]
pads (2):
  rect 0.8x1 smd: 1(-1.62,0) 2(1.62,0)
Top Overlay:
  lines w0.1: -1.4,-0.675 -1.4,-0.8 1.275,-0.8 ; -1.4,0.675 -1.4,0.8 1.275,0.8 ; -1,0 -0.375,0 ; 0.25,-0.625 0.25,0.625 ; 1,0 0.25,0 ; 1.225,-0.8 1.275,-0.8 ; 1.25,0.8 1.275,0.8 ; 1.4,-0.675 1.275,-0.8 ; 1.4,0.675 1.275,0.8 ; 0.25,0 -0.375,0.625 -0.375,-0.625 0.25,0